# EAGLE library part OLIMEX_CONNECTORS_USB_TWO_LEVEL (library A10-A20-OLINUXINO-MICRO-4GB_Rev_D)
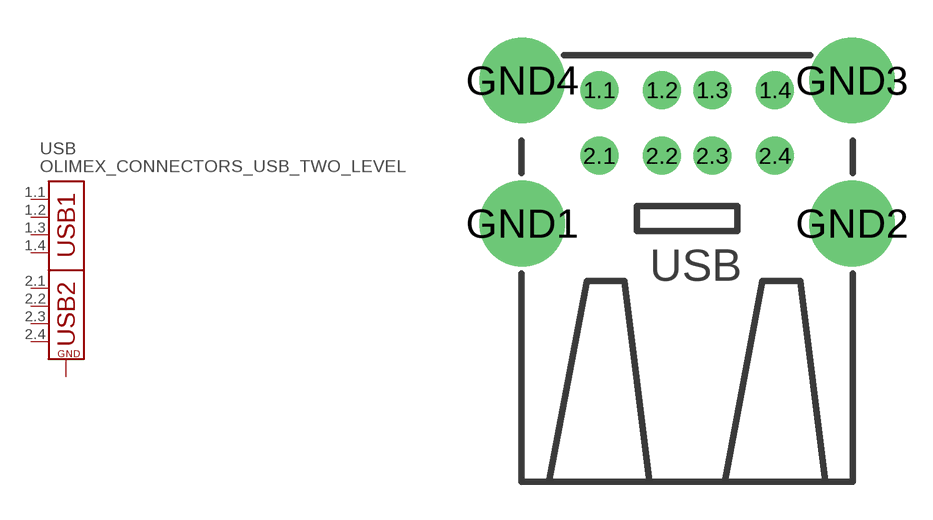
[diagram p7: symbol with the pads of OLIMEX_CONNECTORS_USB_TWO_LEVEL; footprint OLIMEX_CONNECTORS_USB_TWO_LEVEL]

Designator prefix USB

## OLIMEX_CONNECTORS_USB_TWO_LEVEL  [OLIMEX_CONNECTORS_USB_TWO_LEVEL]
1.1  1.1  pas
1.2  1.2  pas
1.3  1.3  pas
1.4  1.4  pas
2.1  2.1  pas
2.2  2.2  pas
2.3  2.3  pas
2.4  2.4  pas
GND1  GND1  in
GND2  GND2  in
GND3  GND3  in
GND4  GND4  in

## Footprint OLIMEX_CONNECTORS_USB_TWO_LEVEL (pad centres in mm)
drill 1: 1.1 -3.5,2.62; 1.2 -1,2.62; 1.3 1,2.62; 1.4 3.5,2.62; 2.1 -3.5,0; 2.2 -1,0; 2.3 1,0; 2.4 3.5,0
drill 2.4: GND1 -6.57,-2.7; GND2 6.57,-2.7; GND3 6.57,3; GND4 -6.57,3